# EAGLE library part IC_UFBGA-15 (library solderlessPCB v164)
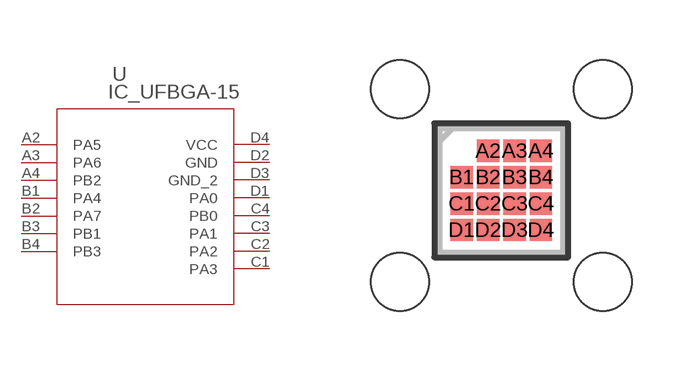
[diagram p12: symbol with the pads of UFBGA15; footprint UFBGA15]

Designator prefix -

## IC_UFBGA-15  [UFBGA15]
A2  PA5
A3  PA6
A4  PB2
B1  PA4
B2  PA7
B3  PB1
B4  PB3
C1  PA3
C2  PA2
C3  PA1
C4  PB0
D1  PA0
D2  GND  pas
D3  GND_2  pas
D4  VCC  pwr

## Footprint UFBGA15 (pad centres in mm)
smd 0.56 x 0.56: A2 -0.33,0.991; A3 0.33,0.991; A4 0.991,0.991; B1 -0.991,0.33; B2 -0.33,0.33; B3 0.33,0.33; B4 0.991,0.33; C1 -0.991,-0.33; C2 -0.33,-0.33; C3 0.33,-0.33; C4 0.991,-0.33; D1 -0.991,-0.991; D2 -0.33,-0.991; D3 0.33,-0.991; D4 0.991,-0.991
hole 1.45 at -2.54,2.54
hole 1.45 at 2.54,2.54
hole 1.45 at -2.54,-2.286
hole 1.45 at 2.54,-2.286